# Altium schematic symbol library TPM8837C-DF4R.SchLib: 2 symbols
Pins are listed as number, name and electrical type; pins without a type are passive.

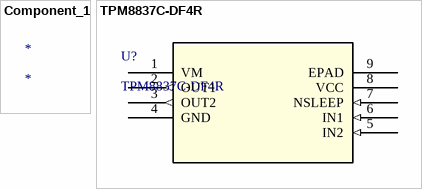
[diagram p0: symbols Component_1 to TPM8837C-DF4R]

## Component_1
designator *

## TPM8837C-DF4R
designator U?
No Description Available; Manufacturer_Name: 3Peak; Copyright: Copyright (C) 2025 Ultra Librarian. All rights reserved.; Manufacturer_Part_Number: TPM8837C-DF4R; RefDes: RefDes; Type: Type
footprint DFNWB2X2-8L-L_TPK
pins: 1 VM (power), 2 OUT1 (out), 3 OUT2 (out), 4 GND (power), 5 IN2 (in), 6 IN1 (in), 7 NSLEEP (in), 8 VCC (power), 9 EPAD